# Altium schematic symbol library K-Contactor with auxiliary power.SCHLIB: 3 symbols
Pins are listed as number, name and electrical type; pins without a type are passive.

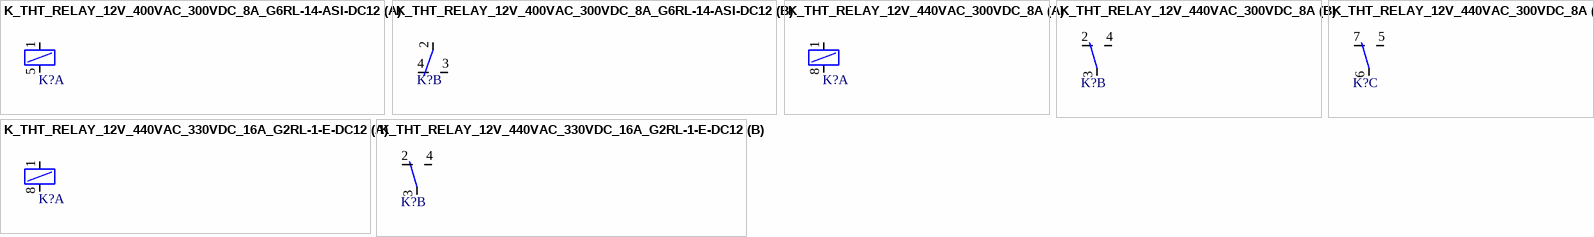
[diagram p0: symbols K_THT_RELAY_12V_400VAC_300VDC_8A_G6RL-14-ASI-DC12 to K_THT_RELAY_12V_440VAC_330VDC_16A_G2RL-1-E-DC12]

## K_THT_RELAY_12V_400VAC_300VDC_8A_G6RL-14-ASI-DC12
designator K?  (value not drawn)
RELAY GEN PURPOSE SPDT 16A 12V; Supplier - Digikey: Z2903-ND
footprint THT_G6RL-14-ASI
part A pins: 1, 5
part B pins: 2, 3, 4

## K_THT_RELAY_12V_440VAC_300VDC_8A
designator K?  (value not drawn)
RELAY GEN PURPOSE  DPDT 8A 12V; Supplier - Digikey: Z147-ND
footprint THT_G2RL-1-E_RELAY
part A pins: 1, 8
part B pins: 2, 3, 4
part C pins: 5, 6, 7

## K_THT_RELAY_12V_440VAC_330VDC_16A_G2RL-1-E-DC12
designator K?  (value not drawn)
RELAY GEN PURPOSE SPDT 16A 12V; Supplier - Digikey: Z2834-ND
footprint THT_G2RL-1-E_RELAY
part A pins: 1, 8
part B pins: 2, 3, 4, 5, 6, 7